# Altium schematic symbol library 452403012014.SchLib: 1 symbol
Pins are listed as number, name and electrical type; pins without a type are passive.

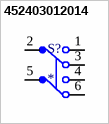
[diagram p0: symbol 452403012014]

## 452403012014
designator S?
<b>WS-SLSV SMD Mini Slide Switch, Same Side Connection 7.65 x 5.5 mm </B><BR><BR>  <B>Properties</B><BR> <BR>Actuator Material:LCP <BR>Actuator Flammability Rating:UL94 V-0 <BR>Actuator Color:Black <BR>Frame Material:PA6T <BR>Frame Flammability Rating:UL94 V-0 <BR>Frame Color:Black <BR>Contact Material:Copper Alloy <BR>Contact Plating:Silver <BR>Terminal Material:Copper Alloy <BR>Terminal Plating:Silver <BR>VR:6 V (DC) <BR>VR:6 V (DC) <BR>Contact Resistance Initial:50 mÎ© <BR>Contact Resistance After Life Test:200 mÎ© <BR>RISO:100 MÎ© <BR>Withstanding Voltage:500 V (AC) <BR>Qty.:1500 <BR> <BR> <B>Electrical Properties</B> <BR>IR:300 mA <BR> <BR> <B>Mechanical Properties</B> <BR>Operation Force:350g <BR> <BR> <B>Packaging Properties</B> <BR>Packaging :Tape and Reel <BR><BR> <BR> <br><a href="https://www.we-online.com/catalog/media/o64640v209%20Family_WS-SLSV_452403012014.jpg" title="Enlarge picture"> <img src="https://www.we-online.com/catalog/media/o64640v209%20Family_WS-SLSV_452403012014.jpg"  width="320"></a><p>  </b><br>             Details see: <a href="https://www.we-online.com/catalog/en/SLSV_7_65X_5_5_SMD_VERTICAL/">https://www.we-online.com/catalog/en/SLSV_7_65X_5_5_SMD_VERTICAL/</a><p> <br>Updated by yingchun,Shan;2020-02-25 <br>2020(C) WÃ¼rth Elektronik; MF: {'manufacturer': u'Wurth Electronics'}; Availability: Unavailable; Price: None; MP: 452403012014; Package: None; Value: *
footprint 452403012014
pins: 1, 2, 3, 4, 5, 6